# EAGLE library part TMP102AIDRLR (library edrtech_lib)
1.4V-Capable Temperature Sensor with I2C/SMBus Interface and Alert Function in SOT-563 Source: Datasheet <http://www.ti.com/lit/gpn/tmp102>
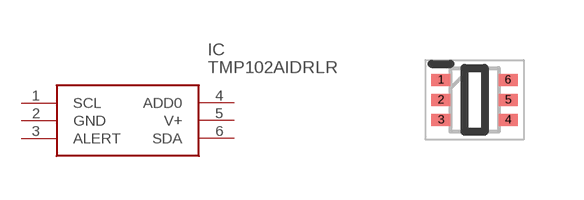
[diagram p43: symbol with the pads of SOTFL50P160X60-6N; footprint SOTFL50P160X60-6N]

Designator prefix IC

## TMP102AIDRLR (ARROW_PART_NUMBER: TMP102AIDRLR; ARROW_PRICE-STOCK: https://www.arrow.com/en/products/tmp102aidrlr/texas-instruments?region=nac; DESCRIPTION: 1.4V-Capable Temperature Sensor with I2C/SMBus Interface and Alert Function in SOT-563; HEIGHT: 0.6mm; MANUFACTURER_NAME: Texas Instruments; MANUFACTURER_PART_NUMBER: TMP102AIDRLR; MOUSER_PART_NUMBER: 595-TMP102AIDRLR; MOUSER_PRICE-STOCK: https://www.mouser.co.uk/ProductDetail/Texas-Instruments/TMP102AIDRLR?qs=SUwrw6jWmlKK8eMrKfK4LA%3D%3D)  [SOTFL50P160X60-6N]
1  SCL
2  GND
3  ALERT
4  ADD0
5  V+
6  SDA

## Footprint SOTFL50P160X60-6N (pad centres in mm)
DRL (R-PDSO-N6)_1
smd 0.475 x 0.3: 1 -0.838,0.5; 2 -0.838,0; 3 -0.838,-0.5; 4 0.838,-0.5; 5 0.838,0; 6 0.838,0.5